# Altium schematic symbol library SCH - PASSIVES - RESISTOR.SCHLIB: 1 symbol
Pins are listed as number, name and electrical type; pins without a type are passive.

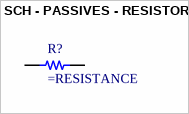
[diagram p0: symbol SCH - PASSIVES - RESISTOR]

## SCH - PASSIVES - RESISTOR
designator R?
SMT Resistor
pins: 1, 2